# EAGLE library part LMR14020 (library ti-regulator)
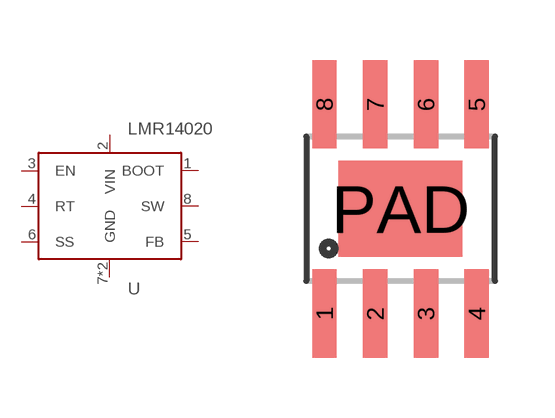
[diagram p0: symbol with the pads of HSOIC-8; footprint HSOIC-8]

Designator prefix -

## LMR14020  [HSOIC-8]
1  BOOT
2  VIN
3  EN
4  RT
5  FB
6  SS
7  GND
8  SW
PAD  GND

## Footprint HSOIC-8 (pad centres in mm)
smd 0.61 x 2.21: 1 -1.905,-2.616; 2 -0.635,-2.616; 3 0.635,-2.616; 4 1.905,-2.616; 5 1.905,2.616; 6 0.635,2.616; 7 -0.635,2.616; 8 -1.905,2.616
smd 3.1 x 2.4: PAD 0,0